# EAGLE library part CN1594 (library CN1594_smd)
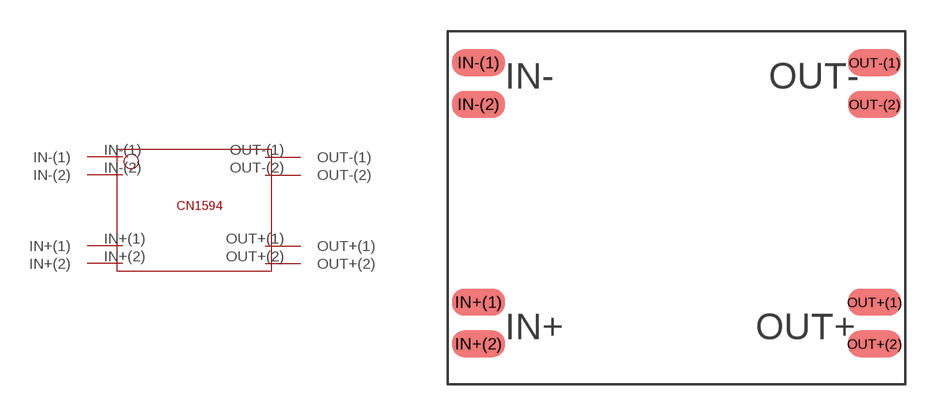
[diagram p0: symbol with the pads of CN1594; footprint CN1594]

Designator prefix -

## CN1594THROUGH-HOLE  [CN1594]
IN+(1)  IN+(1)  in
IN+(2)  IN+(2)  in
IN-(1)  IN-(1)  in
IN-(2)  IN-(2)  in
OUT+(1)  OUT+(1)  out
OUT+(2)  OUT+(2)  out
OUT-(1)  OUT-(1)  out
OUT-(2)  OUT-(2)  out

## Footprint CN1594 (pad centres in mm)
smd 2.54 x 1.27: IN+(1) -9.525,-4.547; IN+(2) -9.525,-6.553; IN-(1) -9.525,6.985; IN-(2) -9.525,4.978; OUT+(1) 9.525,-4.547; OUT+(2) 9.525,-6.553; OUT-(1) 9.525,6.985; OUT-(2) 9.525,4.978